# Altium footprint library HO2.8-1B_MSOP-8_INV_HOL.PcbLib: 1 footprints
Each footprint in its own frame and in the unit in brackets; x right, y up, seen from the top. Pads: shape width x height; smd on the part's side, far side on the other; paste and mask are expansions set on the pad; w line width, h text height; cw(c..) or ccw(c..) is an arc to the next point about the centre after c.
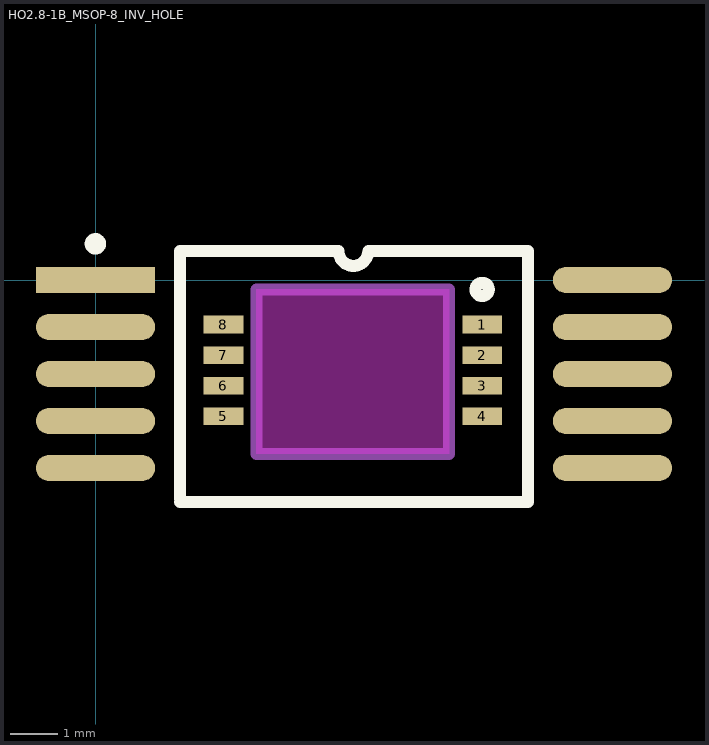
[diagram p0: the footprint, top view; thin cyan lines are the x and y axes]

## HO2.8-1B_MSOP-8_INV_HOLE [mm]
pads (18):
  rect 0.846x0.38 smd: 1(8.227,-0.95) 2(8.227,-1.6) 3(8.227,-2.25) 4(8.227,-2.9) 5(2.723,-2.9) 6(2.723,-2.25) 7(2.723,-1.6) 8(2.723,-0.95)
  oval 2.54x0.559 smd: ""(0,-4) ""(0,-3) ""(0,-2) ""(0,-1) ""(11,-4) ""(11,-3) ""(11,-2) ""(11,-1) ""(11,0)
  rect 2.54x0.559 smd: ""(0,0)
Top Overlay:
  circle w0.254: c-0.003,0.77 r0.1
  lines w0.254: 1.8,-4.72 9.2,-4.72 ; 1.8,-4.651 1.8,0.619 5.169,0.619 ccw(c5.486,0.619) 5.804,0.619 9.2,0.619 ; 8.368,-0.2 cw(c8.227,-0.2) 8.367,-0.184 ; 9.2,-4.67 9.2,0.6
Keep-Out Layer:
  board cut-out: 3.425,-3.7 3.425,-0.2 7.525,-0.2 7.525,-3.7
Mechanical 1:
  lines w0.254: 3.425,-3.7 7.525,-3.7 7.525,-0.2 3.425,-0.2 3.425,-3.7
3D body "N02.8-1B.STEP": height 2.7, standoff -0.2, extent 1.25,-5.25 9.75,1.25